# Altium schematic symbol library WE-MAPI_2010.SchLib: 9 symbols
Pins are listed as number, name and electrical type; pins without a type are passive.

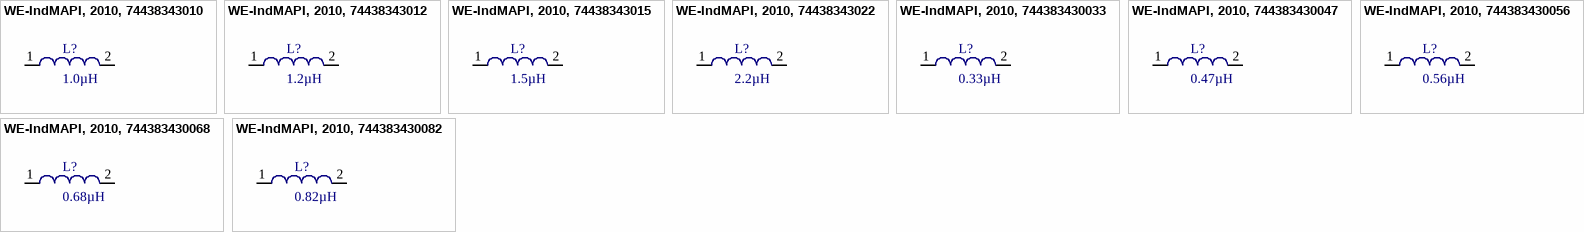
[diagram p0: symbols WE-IndMAPI, 2010, 74438343010 to WE-IndMAPI, 2010, 744383430082]

## WE-IndMAPI, 2010, 74438343010
designator L?, comment 1.0µH
SMD Power Inductor WE-IndMAPI, L=1.0µH; partNo: 74438343010; Manufacturer: Würth Elektronik eiSos GmbH; Inductance: 1.0µH; ComponentLink1Description: Manufacturer; ComponentLink1URL: http://www.we-online.de; Created by: Christin Zierenner; Created Date: Oct-2014; ComponentLink2Description: Datasheet; ComponentLink2URL: http://katalog.we-online.de/kataloge/eisos/media/pdf/74438343010.pdf
footprint WE-MAPI 2010 (SMD Inductor, 2-Leads, Body 2.5x 1.6mm,IPC Medium Density)
pins: 1, 2

## WE-IndMAPI, 2010, 74438343012
designator L?, comment 1.2µH
SMD Power Inductor WE-IndMAPI, L=1.2µH; partNo: 74438343012; Manufacturer: Würth Elektronik eiSos GmbH; Inductance: 1.2µH; ComponentLink1Description: Manufacturer; ComponentLink1URL: http://www.we-online.de; Created by: Christin Zierenner; Created Date: Oct-2014; ComponentLink2Description: Datasheet; ComponentLink2URL: http://katalog.we-online.de/kataloge/eisos/media/pdf/74438343012.pdf
footprint WE-MAPI 2010 (SMD Inductor, 2-Leads, Body 2.5x 1.6mm,IPC Medium Density)
pins: 1, 2

## WE-IndMAPI, 2010, 74438343015
designator L?, comment 1.5µH
SMD Power Inductor WE-IndMAPI, L=1.5µH; partNo: 74438343015; Manufacturer: Würth Elektronik eiSos GmbH; Inductance: 1.5µH; ComponentLink1Description: Manufacturer; ComponentLink1URL: http://www.we-online.de; Created by: Christin Zierenner; Created Date: Oct-2014; ComponentLink2Description: Datasheet; ComponentLink2URL: http://katalog.we-online.de/kataloge/eisos/media/pdf/74438343015.pdf
footprint WE-MAPI 2010 (SMD Inductor, 2-Leads, Body 2.5x 1.6mm,IPC Medium Density)
pins: 1, 2

## WE-IndMAPI, 2010, 74438343022
designator L?, comment 2.2µH
SMD Power Inductor WE-IndMAPI, L=2.2µH; partNo: 74438343022; Manufacturer: Würth Elektronik eiSos GmbH; Inductance: 2.2µH; ComponentLink1Description: Manufacturer; ComponentLink1URL: http://www.we-online.de; Created by: Christin Zierenner; Created Date: Oct-2014; ComponentLink2Description: Datasheet; ComponentLink2URL: http://katalog.we-online.de/kataloge/eisos/media/pdf/74438343022.pdf
footprint WE-MAPI 2010 (SMD Inductor, 2-Leads, Body 2.5x 1.6mm,IPC Medium Density)
pins: 1, 2

## WE-IndMAPI, 2010, 744383430033
designator L?, comment 0.33µH
SMD Power Inductor WE-IndMAPI, L=0.33µH; partNo: 744383430033; Manufacturer: Würth Elektronik eiSos GmbH; Inductance: 0.33µH; ComponentLink1Description: Manufacturer; ComponentLink1URL: http://www.we-online.de; Created by: Christin Zierenner; Created Date: Oct-2014; ComponentLink2Description: Datasheet; ComponentLink2URL: http://katalog.we-online.de/kataloge/eisos/media/pdf/744383430033.pdf
footprint WE-MAPI 2010 (SMD Inductor, 2-Leads, Body 2.5x 1.6mm,IPC Medium Density)
pins: 1, 2

## WE-IndMAPI, 2010, 744383430047
designator L?, comment 0.47µH
SMD Power Inductor WE-IndMAPI, L=0.47µH; partNo: 744383430047; Manufacturer: Würth Elektronik eiSos GmbH; Inductance: 0.47µH; ComponentLink1Description: Manufacturer; ComponentLink1URL: http://www.we-online.de; Created by: Christin Zierenner; Created Date: Oct-2014; ComponentLink2Description: Datasheet; ComponentLink2URL: http://katalog.we-online.de/kataloge/eisos/media/pdf/744383430047.pdf
footprint WE-MAPI 2010 (SMD Inductor, 2-Leads, Body 2.5x 1.6mm,IPC Medium Density)
pins: 1, 2

## WE-IndMAPI, 2010, 744383430056
designator L?, comment 0.56µH
SMD Power Inductor WE-IndMAPI, L=0.56µH; partNo: 744383430056; Manufacturer: Würth Elektronik eiSos GmbH; Inductance: 0.56µH; ComponentLink1Description: Manufacturer; ComponentLink1URL: http://www.we-online.de; Created by: Christin Zierenner; Created Date: Oct-2014; ComponentLink2Description: Datasheet; ComponentLink2URL: http://katalog.we-online.de/kataloge/eisos/media/pdf/744383430056.pdf
footprint WE-MAPI 2010 (SMD Inductor, 2-Leads, Body 2.5x 1.6mm,IPC Medium Density)
pins: 1, 2

## WE-IndMAPI, 2010, 744383430068
designator L?, comment 0.68µH
SMD Power Inductor WE-IndMAPI, L=0.68µH; partNo: 744383430068; Manufacturer: Würth Elektronik eiSos GmbH; Inductance: 0.68µH; ComponentLink1Description: Manufacturer; ComponentLink1URL: http://www.we-online.de; Created by: Christin Zierenner; Created Date: Oct-2014; ComponentLink2Description: Datasheet; ComponentLink2URL: http://katalog.we-online.de/kataloge/eisos/media/pdf/744383430068.pdf
footprint WE-MAPI 2010 (SMD Inductor, 2-Leads, Body 2.5x 1.6mm,IPC Medium Density)
pins: 1, 2

## WE-IndMAPI, 2010, 744383430082
designator L?, comment 0.82µH
SMD Power Inductor WE-IndMAPI, L=0.82µH; partNo: 744383430082; Manufacturer: Würth Elektronik eiSos GmbH; Inductance: 0.82µH; ComponentLink1Description: Manufacturer; ComponentLink1URL: http://www.we-online.de; Created by: Christin Zierenner; Created Date: Oct-2014; ComponentLink2Description: Datasheet; ComponentLink2URL: http://katalog.we-online.de/kataloge/eisos/media/pdf/744383430082.pdf
footprint WE-MAPI 2010 (SMD Inductor, 2-Leads, Body 2.5x 1.6mm,IPC Medium Density)
pins: 1, 2